# Altium schematic symbol library PELT_DRIVE.SchLib: 37 symbols
Pins are listed as number, name and electrical type; pins without a type are passive.

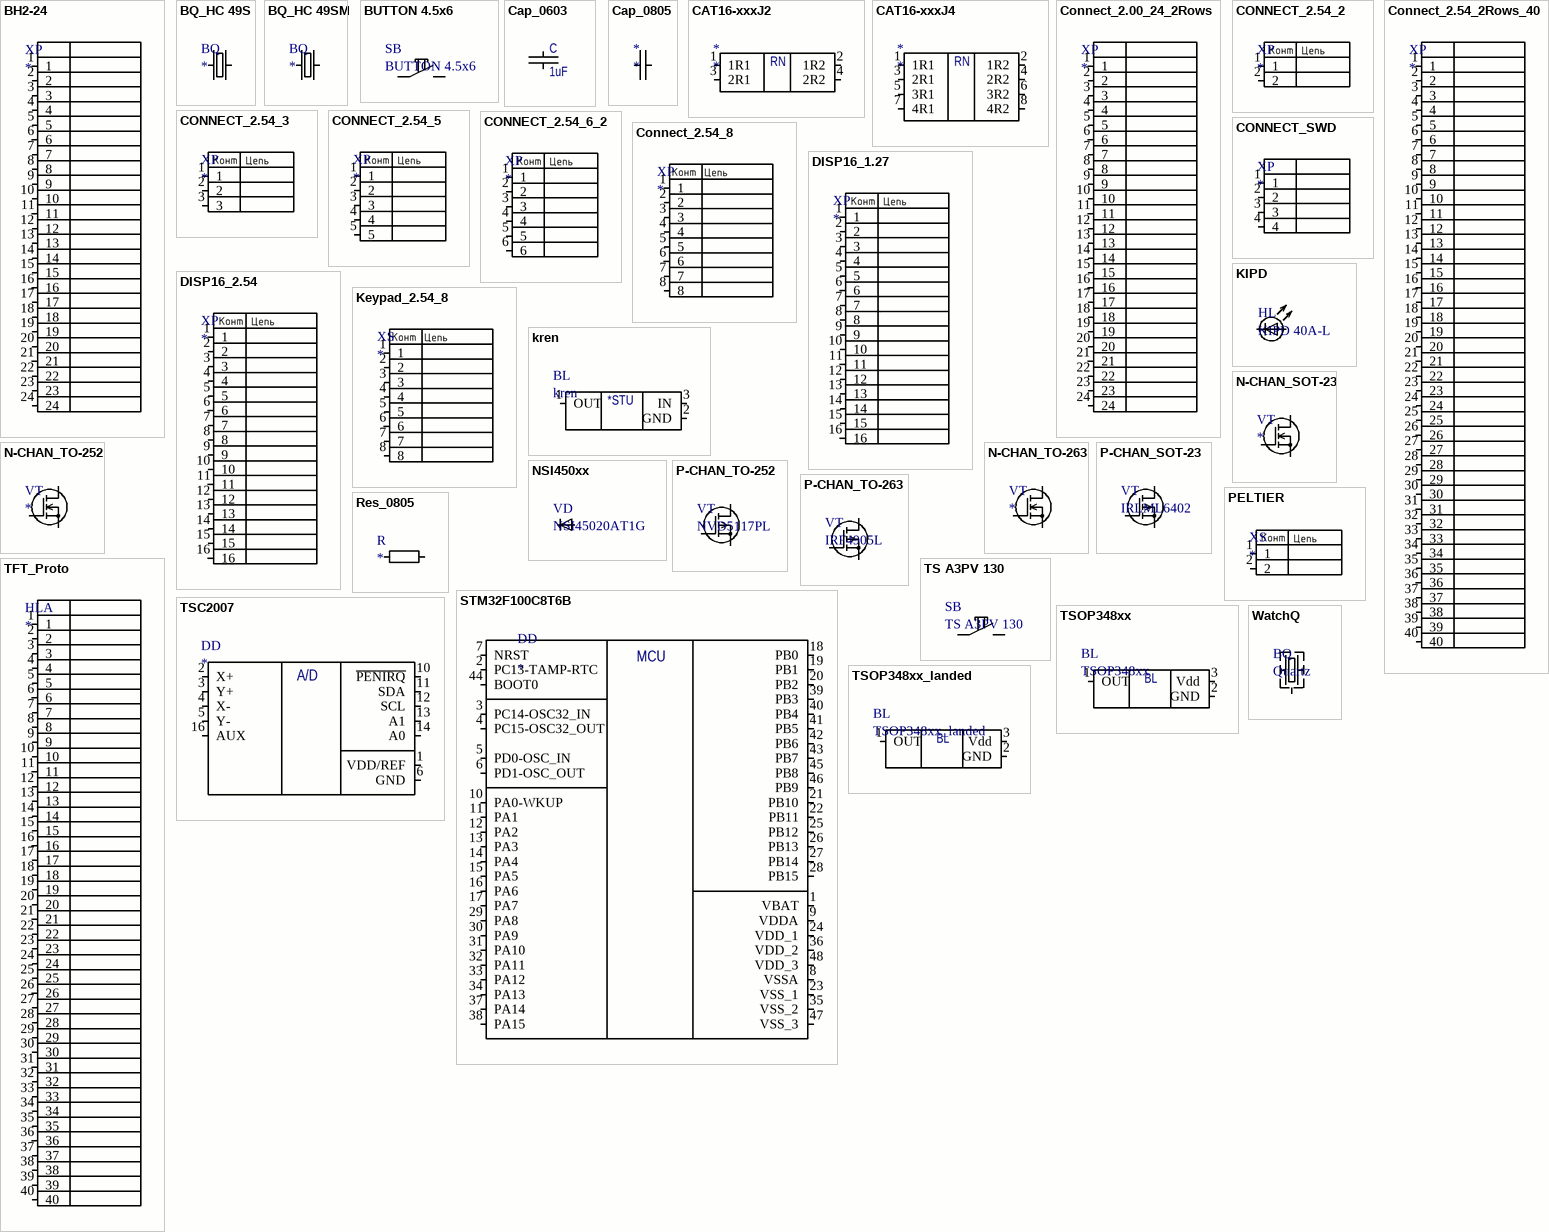
[diagram p0: symbols BH2-24 to WatchQ]

## BH2-24
designator XP
footprint BH2-24
pins: 1, 2, 3, 4, 5, 6, 7, 8, 9, 10, 11, 12, 13, 14, 15, 16, 17, 18, 19, 20, 21, 22, 23, 24

## BQ_HC 49S
designator BQ
PackageReference: HC-49S
footprint HC 49S (DIP QUARTZ)
pins: 1, 2

## BQ_HC 49SM
designator BQ
footprint HC 49SM
pins: 1, 2

## BUTTON 4.5x6
designator SB
Button
footprint BUTTON 6x4.5
pins: 1 OUT, 2 IN

## Cap_0603
designator C, comment 1uF
Manufacturer: AVX; Part Number: 0603YC105KAT2A; Replacement: GRM188R71E105KA12D; PackageReference: 0603; Value: 1uF; Distributor: http://www.rospek.ru; Price: 3.00
footprint CAP_0603
pins: 1, 2

## Cap_0805
designator *
footprint CAP_0805
pins: 1, 2

## CAT16-xxxJ2
designator *
footprint CAT16-xxxJ2
pins: 1 1R1, 2 1R2, 3 2R1, 4 2R2
text: RN

## CAT16-xxxJ4
designator *
footprint CAT16-xxxJ4
pins: 1 1R1, 2 1R2, 3 2R1, 4 2R2, 5 3R1, 6 3R2, 7 4R1, 8 4R2
text: RN

## Connect_2.00_24_2Rows
designator XP
footprint PLD2-24
pins: 1, 2, 3, 4, 5, 6, 7, 8, 9, 10, 11, 12, 13, 14, 15, 16, 17, 18, 19, 20, 21, 22, 23, 24

## CONNECT_2.54_2
designator XP
footprint CONN_2.54_2
pins: 1, 2

## Connect_2.54_2Rows_40
designator XP
footprint CONN_2.54_2Row_40
pins: 1, 2, 3, 4, 5, 6, 7, 8, 9, 10, 11, 12, 13, 14, 15, 16, 17, 18, 19, 20, 21, 22, 23, 24, 25, 26, 27, 28, 29, 30, 31, 32, 33, 34, 35, 36, 37, 38, 39, 40

## CONNECT_2.54_3
designator XP
footprint CONN_2.54_3
pins: 1, 2, 3

## CONNECT_2.54_5
designator XP
footprint CONN_2.54_5
pins: 1, 2, 3, 4, 5

## CONNECT_2.54_6_2
designator XP
footprint CONN_2.54_6_2
pins: 1, 2, 3, 4, 5, 6

## Connect_2.54_8
designator XP
footprint CONN_2.54_8
pins: 1, 2, 3, 4, 5, 6, 7, 8

## CONNECT_SWD
designator XP
footprint CONN_2.54_4
pins: 1, 2, 3, 4

## DISP16_1.27
designator XP
footprint DISP16_1.27
pins: 1, 2, 3, 4, 5, 6, 7, 8, 9, 10, 11, 12, 13, 14, 15, 16

## DISP16_2.54
designator XP
footprint DISP16_2.54
pins: 1, 2, 3, 4, 5, 6, 7, 8, 9, 10, 11, 12, 13, 14, 15, 16

## Keypad_2.54_8
designator XS
footprint Keypad_2.54_8
pins: 1, 2, 3, 4, 5, 6, 7, 8

## KIPD
designator HL, comment KIPD 40A-L
footprint kipd
pins: 1, 2

## kren
designator BL
Part Number: L78L05
footprint kren (L78L05)
pins: 1 OUT, 2 GND, 3 IN
text: *STU

## N-CHAN_SOT-23
designator VT
footprint SOT-23
pins: 1, 2, 3

## N-CHAN_TO-252
designator VT
2SK3919; Part Number: 2SK3919
footprint TO-252 (TO252)
pins: 1, 2, 3

## N-CHAN_TO-263
designator VT
IRLS3034; Part Number: IRLS3034
footprint TO-263
pins: 1, 2, 3

## NSI450xx
designator VD, comment NSI45020AT1G
footprint SOD-123
pins: 1, 2

## P-CHAN_SOT-23
designator VT, comment IRLML6402
Part Number: IRLML6402
footprint SOT-23
pins: 1, 2, 3

## P-CHAN_TO-252
designator VT, comment NVD5117PL
Part Number: NVD5117PL
footprint TO-252 (TO252)
pins: 1, 2, 3

## P-CHAN_TO-263
designator VT, comment IRF4905L
Part Number: IRF4905L
footprint TO-263
pins: 1, 2, 3

## PELTIER
designator XS
footprint PELTIER (Peltier Element)
pins: 1, 2

## Res_0805
designator R
footprint Res_0805
pins: 1, 2

## STM32F100C8T6B
designator DD
footprint LQFP48
pins: 1 VBAT, 2 PC13-TAMP-RTC, 3 PC14-OSC32_IN, 4 PC15-OSC32_OUT, 5 PD0-OSC_IN, 6 PD1-OSC_OUT, 7 NRST, 8 VSSA, 9 VDDA, 10 PA0-WKUP, 11 PA1, 12 PA2, 13 PA3, 14 PA4, 15 PA5, 16 PA6, 17 PA7, 18 PB0, 19 PB1, 20 PB2, 21 PB10, 22 PB11, 23 VSS_1, 24 VDD_1, 25 PB12, 26 PB13, 27 PB14, 28 PB15, 29 PA8, 30 PA9, 31 PA10, 32 PA11, 33 PA12, 34 PA13, 35 VSS_2, 36 VDD_2, 37 PA14, 38 PA15, 39 PB3, 40 PB4, 41 PB5, 42 PB6, 43 PB7, 44 BOOT0, 45 PB8, 46 PB9, 47 VSS_3, 48 VDD_3
text: MCU

## TFT_Proto
designator HLA
footprint TFT_Proto
pins: 1, 2, 3, 4, 5, 6, 7, 8, 9, 10, 11, 12, 13, 14, 15, 16, 17, 18, 19, 20, 21, 22, 23, 24, 25, 26, 27, 28, 29, 30, 31, 32, 33, 34, 35, 36, 37, 38, 39, 40

## TS A3PV 130
designator SB
Button
footprint TS A3PV 130 (Button)
pins: 1 OUT, 2 IN

## TSC2007
designator DD
footprint PDSO-G16
pins: 1 VDD/REF, 2 X+, 3 Y+, 4 X-, 5 Y-, 6 GND, 10 ~{PENIRQ}, 11 SDA, 12 SCL, 13 A1, 14 A0, 16 AUX
text: A/D

## TSOP348xx
designator BL
footprint TSOP348xx
pins: 1 OUT, 2 GND, 3 Vdd

## TSOP348xx_landed
designator BL
footprint TSOP348xx -landed
pins: 1 OUT, 2 GND, 3 Vdd

## WatchQ
designator BQ, comment Quartz
footprint WatchQ (Quartz)
pins: 0, 1, 2